# Altium schematic symbol library RPX-1.5-R.SchLib: 1 symbol
Pins are listed as number, name and electrical type; pins without a type are passive.

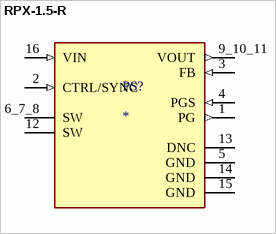
[diagram p0: symbol RPX-1.5-R]

## RPX-1.5-R
designator PS?
MP: RPX-1.5-R; MF: {'manufacturer': u'Recom Power'}; Package: None; Availability: Unavailable; Value: *; Price: None
footprint CONV_RPX-1.5-R
pins: 1 PG (out), 2 CTRL/SYNC (in), 3 FB (in), 4 PGS (in), 5 GND (power), 6_7_8 SW, 9_10_11 VOUT (out), 12 SW, 13 DNC, 14 GND (power), 15 GND (power), 16 VIN (in)